# Altium schematic symbol library PFR03S-472-FNH.SchLib: 1 symbol
Pins are listed as number, name and electrical type; pins without a type are passive.

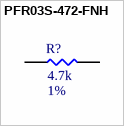
[diagram p0: symbol PFR03S-472-FNH]

## PFR03S-472-FNH
designator R?  Resistance: 4.7k  Tolerance: 1%  (hidden comment: PFR03S-472-FNH)
RES 4.7K OHM 1% 1/20W 0201; MFR: Delta Electronics/Cyntec; PN: PFR03S-472-FNH; Footprint: RES0201; Package: 0201; ComponentLink1Description: Datasheet; ComponentLink1URL: http://www.cyntec.com/upfile/products/download/RK000000NH%20_A4_PFR03S.pdf; Power Rating: 1/20W; Supplier 1: Digi-Key; Supplier Part Number 1: 2037-PFR03S-472-FNHCT-ND
footprint RES0201 (A generic 0201 footprint)
pins: 1, 2